# Altium footprint library SamacSys.PcbLib: 22 footprints (part 1 of 2)
Each footprint in its own frame and in the unit in brackets; x right, y up, seen from the top. Pads: shape width x height; smd on the part's side, far side on the other; paste and mask are expansions set on the pad; w line width, h text height; cw(c..) or ccw(c..) is an arc to the next point about the centre after c.
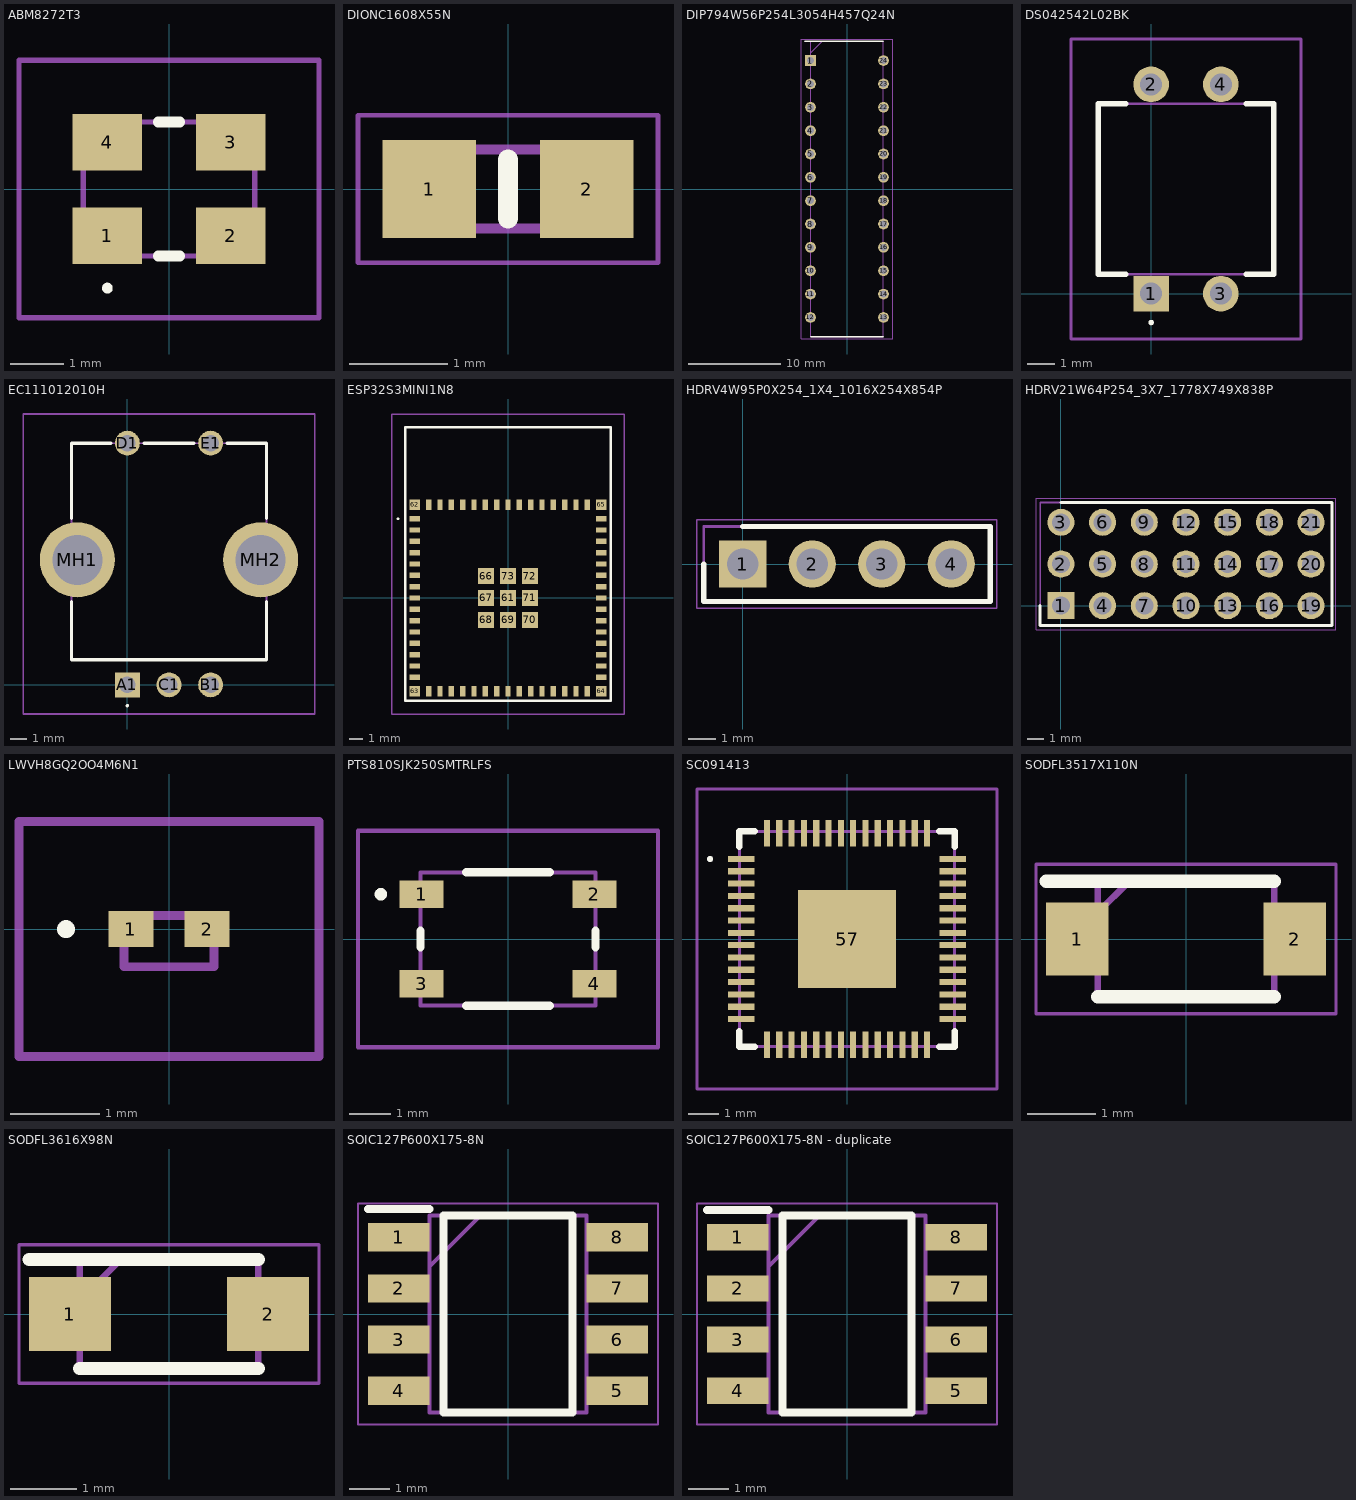
[diagram p0: the footprints below, top view; thin cyan lines are the x and y axes]

## ABM8272T3 [mm]
pads (4):
  rect 1.3x1.05 smd: 1(-1.15,-0.875) 2(1.15,-0.875) 3(1.15,0.875) 4(-1.15,0.875)
Top Overlay:
  lines w0.1: -1.15,-1.9 cw(c-1.15,-1.85) -1.15,-1.8 cw(c-1.15,-1.85) -1.15,-1.9
  lines w0.2: -0.2,-1.25 0.2,-1.25 ; -0.2,1.25 0.2,1.25
Mechanical 13:
  lines w0.1: -1.6,-1.25 -1.6,1.25 1.6,1.25 1.6,-1.25 -1.6,-1.25
Mechanical 15:
  lines w0.1: -2.8,-2.4 -2.8,2.4 2.8,2.4 2.8,-2.4 -2.8,-2.4
3D body "ABM8-272-T3.stp": height 0.75, standoff 0, extent -1.6,-1.25 1.6,1.25

## DIONC1608X55N [mm]
pads (2):
  rect 0.95x1 smd: 1(-0.8,0) 2(0.8,0)
Top Overlay:
  lines w0.2: 0,-0.3 0,0.3
Mechanical 13:
  lines w0.1: -0.8,-0.4 0.8,-0.4 0.8,0.4 -0.8,0.4 -0.8,-0.4
Mechanical 15:
  lines w0.05: -1.525,-0.75 1.525,-0.75 1.525,0.75 -1.525,0.75 -1.525,-0.75
3D body "CG0603MLU-24E.stp": height 0.55, standoff 0, extent -0.8,-0.4 0.8,0.4

## DIP794W56P254L3054H457Q24N [mm]
pads (24):
  rect 1.16x1.16 hole 0.76: 1(-3.97,13.97)
  round 1.16 hole 0.76: 2(-3.97,11.43) 3(-3.97,8.89) 4(-3.97,6.35) 5(-3.97,3.81) 6(-3.97,1.27) 7(-3.97,-1.27) 8(-3.97,-3.81) 9(-3.97,-6.35) 10(-3.97,-8.89) 11(-3.97,-11.43) 12(-3.97,-13.97) 13(3.97,-13.97) 14(3.97,-11.43) 15(3.97,-8.89) 16(3.97,-6.35) 17(3.97,-3.81) 18(3.97,-1.27) 19(3.97,1.27) 20(3.97,3.81) 21(3.97,6.35) 22(3.97,8.89) 23(3.97,11.43) 24(3.97,13.97)
Top Overlay:
  lines w0.2: -4.55,16.065 3.935,16.065 ; -3.935,-16.065 3.935,-16.065
Mechanical 13:
  lines w0.1: -3.935,14.795 -2.665,16.065 ; -3.935,-16.065 -3.935,16.065 3.935,16.065 3.935,-16.065 -3.935,-16.065
Mechanical 15:
  lines w0.05: -4.96,-16.315 -4.96,16.315 4.96,16.315 4.96,-16.315 -4.96,-16.315
3D body "MAX7219CNG.stp": height 4.57, standoff -3.5, extent -4.11,-15.272 4.11,15.272

## DS042542L02BK [mm]
pads (4):
  rect 1.3x1.3 hole 0.8: 1(0,0)
  round 1.3 hole 0.8: 2(0,7.62) 3(2.54,0) 4(2.54,7.62)
Top Overlay:
  lines w0.1: 0,-1.1 ccw(c0,-1.05) 0,-1 ccw(c0,-1.05) 0,-1.1
  lines w0.2: -0.93,0.71 -1.93,0.71 -1.92,6.91 -0.93,6.91 ; 3.47,0.71 4.46,0.71 4.46,6.91 3.47,6.91
Mechanical 13:
  lines w0.1: -1.92,0.71 -1.92,6.91 4.46,6.91 4.46,0.71 -1.92,0.71
Mechanical 15:
  lines w0.1: -2.92,-1.65 -2.92,9.27 5.46,9.27 5.46,-1.65 -2.92,-1.65
3D body "DS04-254-2L-02BK.stp": height 4.61, standoff -5, extent -1.92,-0.298 4.46,7.918

## EC111012010H [mm]
pads (7):
  rect 1.5x1.5 hole 1: A1(0,0)
  round 1.5 hole 1: B1(5,0) C1(2.5,0) D1(0,14.5) E1(5,14.5)
  round 4.5 hole 3: MH1(-3,7.5) MH2(8,7.5)
Top Overlay:
  lines w0.1: 0,-1.3 ccw(c0,-1.25) 0,-1.2 ccw(c0,-1.25) 0,-1.3
  lines w0.2: -3.35,5 -3.35,1.5 8.35,1.5 8.35,5 ; -3.35,10 -3.35,14.5 -1,14.5 ; 1,14.5 4,14.5 ; 6,14.5 8.35,14.5 8.35,10
Mechanical 13:
  lines w0.1: -3.35,1.5 -3.35,14.5 8.35,14.5 8.35,1.5 -3.35,1.5
Mechanical 15:
  lines w0.1: -6.25,-1.75 -6.25,16.25 11.25,16.25 11.25,-1.75 -6.25,-1.75
3D body "EC111012010H.stp": height 25.13, standoff -3.37, extent -4.049,-0.225 9.049,14.725

## ESP32S3MINI1N8 [mm]
pads (73):
  rect 0.8x0.4 smd: 1(-7,5.95) 2(-7,5.1) 3(-7,4.25) 4(-7,3.4) 5(-7,2.55) 6(-7,1.7) 7(-7,0.85) 8(-7,0) 9(-7,-0.85) 10(-7,-1.7) 11(-7,-2.55) 12(-7,-3.4) 13(-7,-4.25) 14(-7,-5.1) 15(-7,-5.95) 31(7,-5.95) 32(7,-5.1) 33(7,-4.25) 34(7,-3.4) 35(7,-2.55) 36(7,-1.7) 37(7,-0.85) 38(7,0) 39(7,0.85) 40(7,1.7) 41(7,2.55) 42(7,3.4) 43(7,4.25) 44(7,5.1) 45(7,5.95)
  rect 0.4x0.8 smd: 16(-5.95,-7) 17(-5.1,-7) 18(-4.25,-7) 19(-3.4,-7) 20(-2.55,-7) 21(-1.7,-7) 22(-0.85,-7) 23(0,-7) 24(0.85,-7) 25(1.7,-7) 26(2.55,-7) 27(3.4,-7) 28(4.25,-7) 29(5.1,-7) 30(5.95,-7) 46(5.95,7) 47(5.1,7) 48(4.25,7) 49(3.4,7) 50(2.55,7) 51(1.7,7) 52(0.85,7) 53(0,7) 54(-0.85,7) 55(-1.7,7) 56(-2.55,7) 57(-3.4,7) 58(-4.25,7) 59(-5.1,7) 60(-5.95,7)
  rect 1.2x1.2 smd: 61(0,0) 66(-1.65,1.65) 67(-1.65,0) 68(-1.65,-1.65) 69(0,-1.65) 70(1.65,-1.65) 71(1.65,0) 72(1.65,1.65) 73(0,1.65)
  rect 0.8x0.8 smd: 62(-7,7) 63(-7,-7) 64(7,-7) 65(7,7)
Top Overlay:
  lines w0.1: -8.3,5.95 cw(c-8.25,5.95) -8.2,5.95 cw(c-8.25,5.95) -8.3,5.95
  lines w0.2: -7.7,-7.7 7.7,-7.7 7.7,12.8 -7.7,12.8 -7.7,-7.7
Mechanical 13:
  lines w0.1: -7.7,-7.7 7.7,-7.7 7.7,12.8 -7.7,12.8 -7.7,-7.7
Mechanical 15:
  lines w0.1: -8.7,-8.7 8.7,-8.7 8.7,13.8 -8.7,13.8 -8.7,-8.7
3D body "ESP32-S3-MINI-1-N8.stp": height 2.55, standoff 0, extent -7.7,-7.695 7.7,12.805

## HDRV4W95P0X254_1X4_1016X254X854P [mm]
pads (4):
  rect 1.725x1.725 hole 1.15: 1(0,0)
  round 1.725 hole 1.15: 2(2.54,0) 3(5.08,0) 4(7.62,0)
Top Overlay:
  lines w0.2: -1.42,0 -1.42,-1.37 9.04,-1.37 9.04,1.37 0,1.37
Mechanical 13:
  lines w0.1: -1.42,-1.37 9.04,-1.37 9.04,1.37 -1.42,1.37 -1.42,-1.37
Mechanical 15:
  lines w0.05: -1.67,-1.62 9.29,-1.62 9.29,1.62 -1.67,1.62 -1.67,-1.62
3D body "61300411121.stp": height 8.54, standoff -3.2, extent -1.27,-1.27 8.89,1.27

## HDRV21W64P254_3X7_1778X749X838P [mm]
pads (21):
  rect 1.65x1.65 hole 1.1: 1(0,0)
  round 1.65 hole 1.1: 2(0,2.54) 3(0,5.08) 4(2.54,0) 5(2.54,2.54) 6(2.54,5.08) 7(5.08,0) 8(5.08,2.54) 9(5.08,5.08) 10(7.62,0) 11(7.62,2.54) 12(7.62,5.08) 13(10.16,0) 14(10.16,2.54) 15(10.16,5.08) 16(12.7,0) 17(12.7,2.54) 18(12.7,5.08) 19(15.24,0) 20(15.24,2.54) 21(15.24,5.08)
Top Overlay:
  lines w0.2: -1.27,0 -1.27,-1.205 16.51,-1.205 16.51,6.285 0,6.285
Mechanical 13:
  lines w0.1: -1.27,-1.205 16.51,-1.205 16.51,6.285 -1.27,6.285 -1.27,-1.205
Mechanical 15:
  lines w0.05: -1.52,-1.455 16.76,-1.455 16.76,6.535 -1.52,6.535 -1.52,-1.455
3D body "TSW-107-07-T-T.stp": height 8.38, standoff -2.54, extent -1.27,-1.205 16.51,6.285

## LWVH8GQ2OO4M6N1 [mm]
pads (2):
  rect 0.5x0.4 smd: 1(-0.425,0) 2(0.425,0)
Top Overlay:
  lines w0.1: -1.2,0 cw(c-1.15,0) -1.1,0 cw(c-1.15,0) -1.2,0
Mechanical 13:
  lines w0.1: -0.5,-0.42 -0.5,0.15 0.5,0.15 0.5,-0.42 -0.5,-0.42
Mechanical 15:
  lines w0.1: -1.675,-1.42 -1.675,1.2 1.675,1.2 1.675,-1.42 -1.675,-1.42
3D body "LW_VH8G-Q2OO-4M6N-1.stp": height 0.45, standoff 0, extent -0.5,-0.42 0.5,0.15

## PCBComponent_1 [mm]

## PTS810SJK250SMTRLFS [mm]
pads (4):
  rect 1.05x0.65 smd: 1(-2.075,1.075) 2(2.075,1.075) 3(-2.075,-1.075) 4(2.075,-1.075)
Top Overlay:
  lines w0.2: -2.1,-0.2 -2.1,0.2 ; -1,-1.6 1,-1.6 ; -1,1.6 1,1.6 ; 2.1,-0.2 2.1,0.2 ; -3.1,1.075 ccw(c-3.05,1.075) -3,1.075 ; -3.1,1.075 cw(c-3.05,1.075) -3,1.075 ; -3.1,1.075 ccw(c-3.05,1.075) -3,1.075
Mechanical 13:
  lines w0.1: -2.1,-1.6 -2.1,1.6 2.1,1.6 2.1,-1.6 -2.1,-1.6
Mechanical 15:
  lines w0.1: -3.6,-2.6 -3.6,2.6 3.6,2.6 3.6,-2.6 -3.6,-2.6
3D body "PTS810SJK250SMTR_LFS.stp": height 2.7, standoff 0, extent -2.3,-1.6 2.3,1.6

## SC091413 [mm]
pads (57):
  rect 0.875x0.2 smd: 1(-3.438,2.6) 2(-3.438,2.2) 3(-3.438,1.8) 4(-3.438,1.4) 5(-3.438,1) 6(-3.438,0.6) 7(-3.438,0.2) 8(-3.438,-0.2) 9(-3.438,-0.6) 10(-3.438,-1) 11(-3.438,-1.4) 12(-3.438,-1.8) 13(-3.438,-2.2) 14(-3.438,-2.6) 29(3.438,-2.6) 30(3.438,-2.2) 31(3.438,-1.8) 32(3.438,-1.4) 33(3.438,-1) 34(3.438,-0.6) 35(3.438,-0.2) 36(3.438,0.2) 37(3.438,0.6) 38(3.438,1) 39(3.438,1.4) 40(3.438,1.8) 41(3.438,2.2) 42(3.438,2.6)
  rect 0.2x0.875 smd: 15(-2.6,-3.438) 16(-2.2,-3.438) 17(-1.8,-3.438) 18(-1.4,-3.438) 19(-1,-3.438) 20(-0.6,-3.438) 21(-0.2,-3.438) 22(0.2,-3.438) 23(0.6,-3.438) 24(1,-3.438) 25(1.4,-3.438) 26(1.8,-3.438) 27(2.2,-3.438) 28(2.6,-3.438) 43(2.6,3.438) 44(2.2,3.438) 45(1.8,3.438) 46(1.4,3.438) 47(1,3.438) 48(0.6,3.438) 49(0.2,3.438) 50(-0.2,3.438) 51(-0.6,3.438) 52(-1,3.438) 53(-1.4,3.438) 54(-1.8,3.438) 55(-2.2,3.438) 56(-2.6,3.438)
  rect 3.2x3.2 smd: 57(0,0)
Top Overlay:
  lines w0.1: -4.5,2.6 cw(c-4.45,2.6) -4.4,2.6 cw(c-4.45,2.6) -4.5,2.6
  lines w0.2: -3.5,-3 -3.5,-3.5 -3,-3.5 ; -3.5,3 -3.5,3.5 -3,3.5 ; 3,-3.5 3.5,-3.5 3.5,-3 ; 3,3.5 3.5,3.5 3.5,3
Mechanical 13:
  lines w0.1: -3.5,-3.5 -3.5,3.5 3.5,3.5 3.5,-3.5 -3.5,-3.5
Mechanical 15:
  lines w0.1: -4.875,-4.875 -4.875,4.875 4.875,4.875 4.875,-4.875 -4.875,-4.875
3D body "SC0914_13_.stp": height 0.92, standoff 0, extent -3.501,-3.501 3.501,3.501

## SODFL3517X110N [mm]
pads (2):
  rect 0.92x1.08 smd: 1(-1.6,0) 2(1.6,0)
Top Overlay:
  lines w0.2: -2.06,0.85 1.3,0.85 ; -1.3,-0.85 1.3,-0.85
Mechanical 13:
  lines w0.1: -1.3,0.39 -0.84,0.85 ; -1.3,-0.85 -1.3,0.85 1.3,0.85 1.3,-0.85 -1.3,-0.85
Mechanical 15:
  lines w0.05: -2.21,-1.1 -2.21,1.1 2.21,1.1 2.21,-1.1 -2.21,-1.1
3D body "PMEG6020AELRX.stp": height 1.07, standoff 0, extent -1.748,-0.999 1.752,1.001

## SODFL3616X98N [mm]
pads (2):
  rect 1.24x1.12 smd: 1(-1.5,0) 2(1.5,0)
Top Overlay:
  lines w0.2: -2.12,0.825 1.35,0.825 ; -1.35,-0.825 1.35,-0.825
Mechanical 13:
  lines w0.1: -1.35,0.205 -0.73,0.825 ; -1.35,-0.825 -1.35,0.825 1.35,0.825 1.35,-0.825 -1.35,-0.825
Mechanical 15:
  lines w0.05: -2.27,-1.05 -2.27,1.05 2.27,1.05 2.27,-1.05 -2.27,-1.05
3D body "MBR120VLSFT1G.stp": height 0.98, standoff 0, extent -1.8,-0.825 1.8,0.825

## SOIC127P600X175-8N [mm]
pads (8):
  rect 1.525x0.7 smd: 1(-2.712,1.905) 2(-2.712,0.635) 3(-2.712,-0.635) 4(-2.712,-1.905) 5(2.712,-1.905) 6(2.712,-0.635) 7(2.712,0.635) 8(2.712,1.905)
Top Overlay:
  lines w0.2: -3.475,2.605 -1.95,2.605 ; -1.6,-2.45 1.6,-2.45 1.6,2.45 -1.6,2.45 -1.6,-2.45
Mechanical 13:
  lines w0.1: -1.95,1.18 -0.68,2.45 ; -1.95,-2.45 1.95,-2.45 1.95,2.45 -1.95,2.45 -1.95,-2.45
Mechanical 15:
  lines w0.05: -3.725,-2.75 3.725,-2.75 3.725,2.75 -3.725,2.75 -3.725,-2.75
3D body "W25Q16JVSNIQ_TUBE.stp": height 1.75, standoff 0, extent -3,-2.45 3,2.45

## SOIC127P600X175-8N - duplicate [mm]
pads (8):
  rect 1.525x0.65 smd: 1(-2.712,1.905) 2(-2.712,0.635) 3(-2.712,-0.635) 4(-2.712,-1.905) 5(2.712,-1.905) 6(2.712,-0.635) 7(2.712,0.635) 8(2.712,1.905)
Top Overlay:
  lines w0.2: -3.475,2.58 -1.95,2.58 ; -1.6,-2.45 -1.6,2.45 1.6,2.45 1.6,-2.45 -1.6,-2.45
Mechanical 13:
  lines w0.1: -1.95,1.18 -0.68,2.45 ; -1.95,-2.45 -1.95,2.45 1.95,2.45 1.95,-2.45 -1.95,-2.45
Mechanical 15:
  lines w0.05: -3.725,-2.75 -3.725,2.75 3.725,2.75 3.725,-2.75 -3.725,-2.75
3D body "NE555DR.stp": height 1.75, standoff 0, extent -3,-2.45 3,2.45